# EAGLE library part FST3125 (library NewSDR)
Quad bus SWITCH
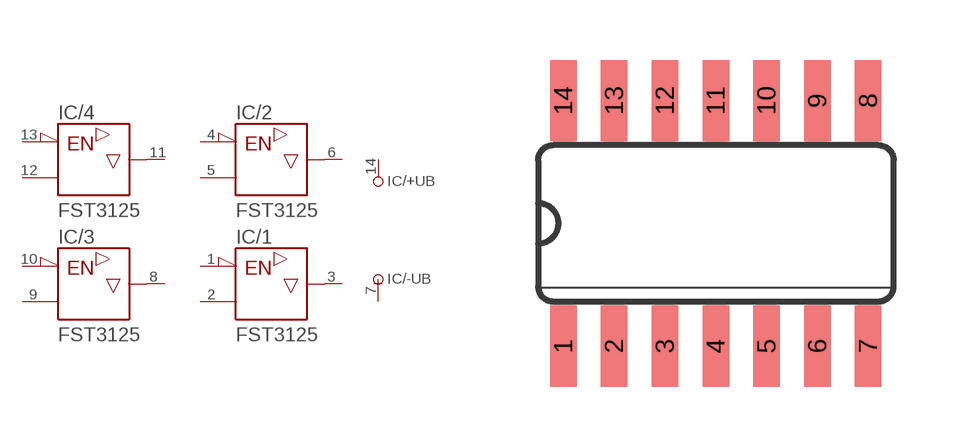
[diagram p89: symbol with the pads of SO14; footprint SO14]

Designator prefix IC; gates /+UB=+UB /-UB=-UB /1=125 /2=125 /3=125 /4=125

## FST3125M  [SO14]
1  /1:!G  in
2  /1:A  in
3  /1:Y  hiz
4  /2:!G  in
5  /2:A  in
6  /2:Y  hiz
7  /-UB:-UB  pwr
8  /3:Y  hiz
9  /3:A  in
10  /3:!G  in
11  /4:Y  hiz
12  /4:A  in
13  /4:!G  in
14  /+UB:+UB  pwr

## Footprint SO14 (pad centres in mm)
Small Outline package 150 mil
smd 0.66 x 2.032: 1 -3.81,-3.073; 2 -2.54,-3.073; 3 -1.27,-3.073; 4 0,-3.073; 5 1.27,-3.073; 6 2.54,-3.073; 7 3.81,-3.073; 8 3.81,3.073; 9 2.54,3.073; 10 1.27,3.073; 11 0,3.073; 12 -1.27,3.073; 13 -2.54,3.073; 14 -3.81,3.073